# Altium footprint library SN74HC08PWLE.PcbLib: 1 footprints
Each footprint in its own frame and in the unit in brackets; x right, y up, seen from the top. Pads: shape width x height; smd on the part's side, far side on the other; paste and mask are expansions set on the pad; w line width, h text height; cw(c..) or ccw(c..) is an arc to the next point about the centre after c.
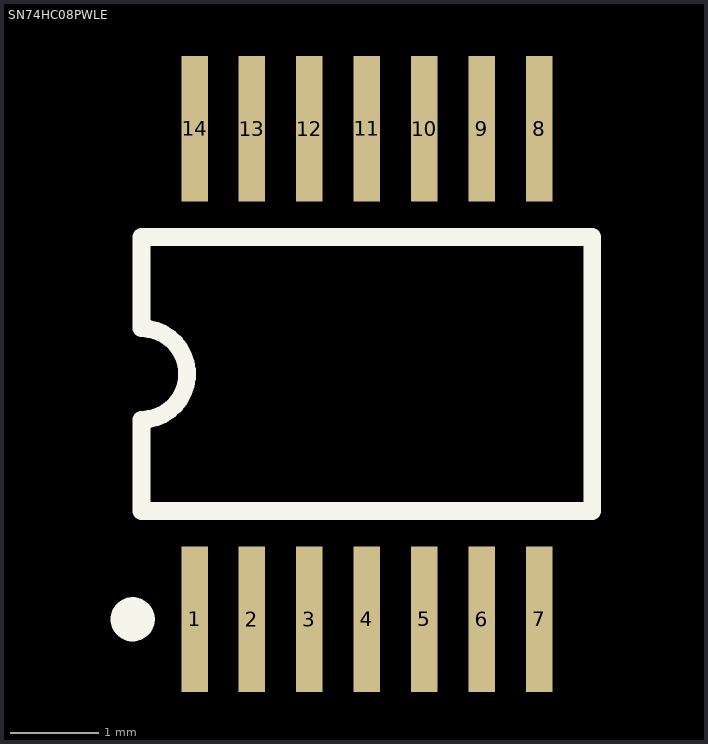
[diagram p0: the footprint, top view; thin cyan lines are the x and y axes]

## SN74HC08PWLE [mm]
pads (14):
  rect 0.3x1.65 smd: 1(-745.799,-810.4) 2(-745.149,-810.4) 3(-744.499,-810.4) 4(-743.849,-810.4) 5(-743.199,-810.4) 6(-742.549,-810.4) 7(-741.899,-810.4) 8(-741.899,-804.85) 9(-742.549,-804.85) 10(-743.199,-804.85) 11(-743.849,-804.85) 12(-744.499,-804.85) 13(-745.149,-804.85) 14(-745.799,-804.85)
Top Overlay:
  circle w0.25: c-746.499,-810.4 r0.125
  lines w0.2: -746.399,-809.175 -746.399,-808.142 ccw(c-746.399,-807.625) -746.399,-807.108 -746.399,-806.075 -741.299,-806.075 -741.299,-809.175 -746.399,-809.175